# Altium schematic symbol library ESP-01M_V1.0.SchLib: 1 symbol
Pins are listed as number, name and electrical type; pins without a type are passive.

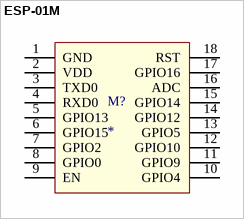
[diagram p0: symbol ESP-01M]

## ESP-01M
designator M?
footprint ESP-01M
pins: 1 GND, 2 VDD, 3 TXD0, 4 RXD0, 5 GPIO13, 6 GPIO15, 7 GPIO2, 8 GPIO0, 9 EN, 10 GPIO4, 11 GPIO9, 12 GPIO10, 13 GPIO5, 14 GPIO12, 15 GPIO14, 16 ADC, 17 GPIO16, 18 RST